# Altium footprint library Resistors.PcbLib: 13 footprints
Each footprint in its own frame and in the unit in brackets; x right, y up, seen from the top. Pads: shape width x height; smd on the part's side, far side on the other; paste and mask are expansions set on the pad; w line width, h text height; cw(c..) or ccw(c..) is an arc to the next point about the centre after c.
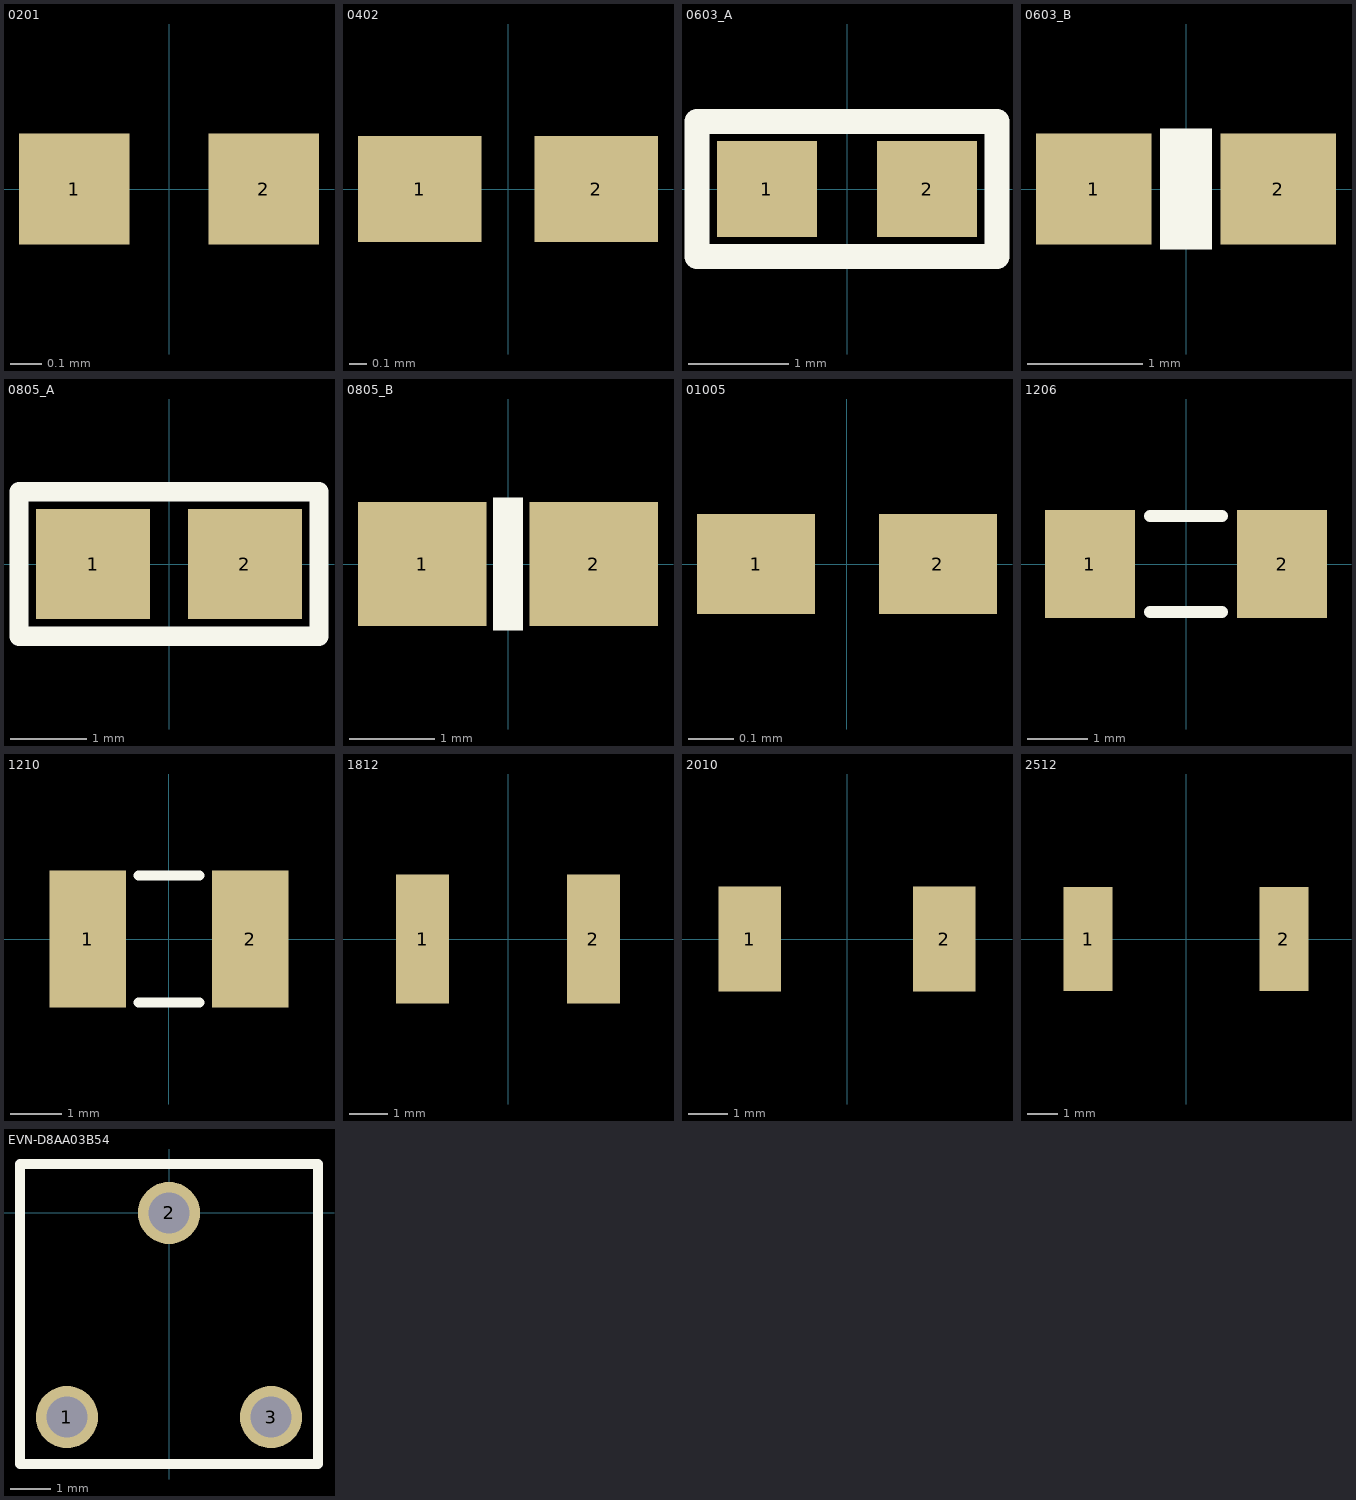
[diagram p0: the footprints below, top view; thin cyan lines are the x and y axes]

## 0201 [mm] "0201 SMT resistor"
height 0.26
pads (2):
  rect 0.35x0.35 smd mask+0.064: 1(-0.3,0) 2(0.3,0)
3D body: height 0.23, standoff 0, extent -0.3,-0.15 0.3,0.15

## 0402 [mm] "0402 SMT resistor"
height 0.4
pads (2):
  rect 0.7x0.6 smd mask+0.064: 1(-0.5,0) 2(0.5,0)
3D body: height 0.35, standoff 0, extent -0.5,-0.25 0.5,0.25

## 0603_A [mm] "0603 Style A SMT resistor"
height 0.96
pads (2):
  rect 1x0.96 smd mask+0.064: 1(-0.8,0) 2(0.8,0)
Top Overlay:
  lines w0.254: -1.5,-0.675 1.5,-0.675 1.5,0.675 -1.5,0.675 -1.5,-0.675
3D body: height 0.45, standoff 0, extent -0.8,-0.4 0.8,0.4

## 0603_B [mm] "0603 Style B SMT resistor"
height 0.96
pads (2):
  rect 1x0.96 smd mask+0.064: 1(-0.8,0) 2(0.8,0)
Top Overlay:
  rectangle: -0.225,-0.525 0.225,0.525
3D body: height 0.45, standoff 0, extent -0.8,-0.4 0.8,0.4

## 0805_A [mm] "0805 Style A SMT resistor"
height 1.35
pads (2):
  rect 1.5x1.45 smd mask+0.064: 1(-1,0) 2(1,0)
Top Overlay:
  lines w0.254: -1.975,-0.95 1.975,-0.95 1.975,0.95 -1.975,0.95 -1.975,-0.95
3D body: height 0.5, standoff 0, extent -1,-0.63 1,0.62

## 0805_B [mm] "0805 Style B SMT resistor"
height 1.35
pads (2):
  rect 1.5x1.45 smd mask+0.064: 1(-1,0) 2(1,0)
Top Overlay:
  rectangle: -0.175,-0.775 0.175,0.775
3D body: height 0.5, standoff 0, extent -1,-0.63 1,0.62

## 01005 [mm] "01005 SMT resistor"
height 0.15
pads (2):
  rect 0.26x0.22 smd mask+0.064: 1(-0.2,0) 2(0.2,0)
3D body: height 0.13, standoff 0, extent -0.2,-0.1 0.2,0.1

## 1206 [mm] "1206 SMT resistor"
height 0.7
pads (2):
  rect 1.5x1.8 smd mask+0.064: 1(-1.6,0) 2(1.6,0)
Top Overlay:
  lines w0.2: -0.6,-0.8 0.6,-0.8 ; -0.6,0.8 0.6,0.8
3D body: height 0.65, standoff 0, extent -1.6,-0.8 1.6,0.8

## 1210 [mm] "1210 SMT resistor"
height 0.7
pads (2):
  rect 1.5x2.7 smd mask+0.064: 1(-1.6,0) 2(1.6,0)
Top Overlay:
  lines w0.2: -0.6,-1.25 0.6,-1.25 ; -0.6,1.25 0.6,1.25
3D body: height 0.65, standoff 0, extent -1.6,-1.25 1.6,1.25

## 1812 [mm] "1812 SMT resistor"
height 0.7
pads (2):
  rect 1.4x3.4 smd mask+0.064: 1(-2.25,0) 2(2.25,0)
3D body: height 0.65, standoff 0, extent -2.25,-1.6 2.25,1.6

## 2010 [mm] "2010 SMT resistor"
height 0.7
pads (2):
  rect 1.6x2.7 smd mask+0.064: 1(-2.5,0) 2(2.5,0)
3D body: height 0.65, standoff 0, extent -2.5,-1.25 2.5,1.25

## 2512 [mm] "2512 SMT resistor"
height 0.7
pads (2):
  rect 1.6x3.4 smd mask+0.064: 1(-3.2,0) 2(3.2,0)
3D body: height 0.65, standoff 0, extent -3.2,-1.6 3.2,1.6

## EVN-D8AA03B54 [mm] "trimmer pot"
pads (3):
  round 1.524 hole 1: 1(-2.5,-5) 2(0,0) 3(2.5,-5)
Top Overlay:
  lines w0.254: 3.65,-6.15 -3.65,-6.15 -3.65,1.2 3.65,1.2 3.65,-6.125